# EAGLE library part EA3036CQBR (library EA3036CQBR)
3CH Power Management IC Source: Datasheet <http://club.szlcsc.com/article/downFile_D72C44885C60F9F1.html>
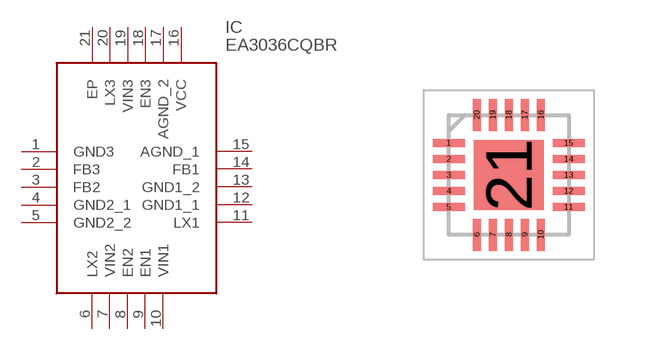
[diagram p0: symbol with the pads of QFN40P300X300X80-21N; footprint QFN40P300X300X80-21N]

Designator prefix IC

## EA3036CQBR (Description: 3CH Power Management IC; Height: 0.8mm; Manufacturer_Name: Ever Analog; Manufacturer_Part_Number: EA3036CQBR)  [QFN40P300X300X80-21N]
1  GND3
2  FB3
3  FB2
4  GND2_1
5  GND2_2
6  LX2
7  VIN2
8  EN2
9  EN1
10  VIN1
11  LX1
12  GND1_1
13  GND1_2
14  FB1
15  AGND_1
16  VCC
17  AGND_2
18  EN3
19  VIN3
20  LX3
21  EP

## Footprint QFN40P300X300X80-21N (pad centres in mm)
QFN 3mm x 3mm-20-PACKAGE
smd 0.8 x 0.2: 1 -1.5,0.8; 2 -1.5,0.4; 3 -1.5,0; 4 -1.5,-0.4; 5 -1.5,-0.8; 11 1.5,-0.8; 12 1.5,-0.4; 13 1.5,0; 14 1.5,0.4; 15 1.5,0.8
smd 0.2 x 0.8: 6 -0.8,-1.5; 7 -0.4,-1.5; 8 0,-1.5; 9 0.4,-1.5; 10 0.8,-1.5; 16 0.8,1.5; 17 0.4,1.5; 18 0,1.5; 19 -0.4,1.5; 20 -0.8,1.5
smd 1.75 x 1.75: 21 0,0